# EAGLE library part IRS2336 (library Custom_old)
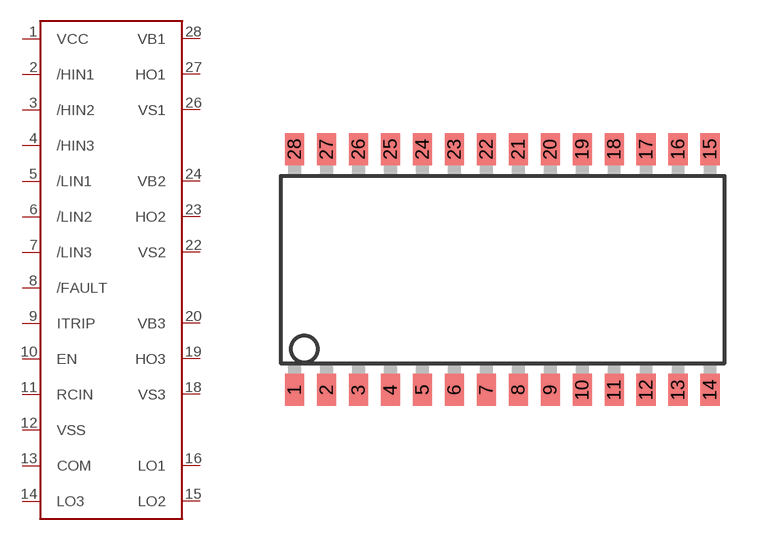
[diagram p20: symbol with the pads of SO28W; footprint SO28W]

Designator prefix -

## IRS2336  [SO28W]
1  VCC
2  /HIN1
3  /HIN2
4  /HIN3
5  /LIN1
6  /LIN2
7  /LIN3
8  /FAULT
9  ITRIP
10  EN
11  RCIN
12  VSS
13  COM
14  LO3
15  LO2
16  LO1
18  VS3
19  HO3
20  VB3
22  VS2
23  HO2
24  VB2
26  VS1
27  HO1
28  VB1

## Footprint SO28W (pad centres in mm)
28-Lead Plastic Small Outline (SO) Wide, 300 mil Body (SOIC) Source: http://ww1.microchip.com/downloads/en/devicedoc/39632c.pdf
smd 0.762 x 1.27: 1 -7.62,-4.78; 2 -6.35,-4.78; 3 -5.08,-4.78; 4 -3.81,-4.78; 5 -2.54,-4.78; 6 -1.27,-4.78; 7 0,-4.78; 8 1.27,-4.78; 9 2.54,-4.78; 10 3.81,-4.78; 11 5.08,-4.78; 12 6.35,-4.78; 13 7.62,-4.78; 14 8.89,-4.78; 15 8.89,4.78; 16 7.62,4.78; 17 6.35,4.78; 18 5.08,4.78; 19 3.81,4.78; 20 2.54,4.78; 21 1.27,4.78; 22 0,4.78; 23 -1.27,4.78; 24 -2.54,4.78; 25 -3.81,4.78; 26 -5.08,4.78; 27 -6.35,4.78; 28 -7.62,4.78